# EAGLE library part -PIC16F684 (library res)
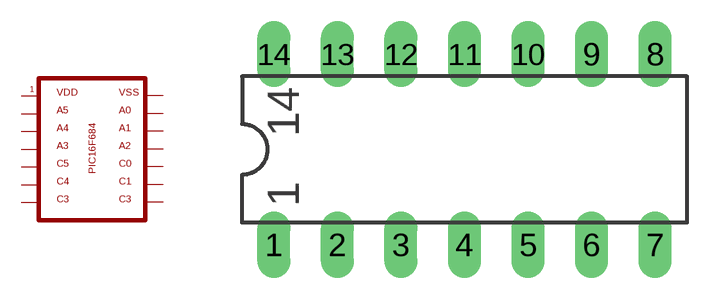
[diagram p14: symbol with the pads of DIL14; footprint DIL14]

Designator prefix -

## -PIC16F684  [DIL14]
1  VDD  pwr
2  A5
3  A4
4  A3  in
5  C5
6  C4
7  C3
8  C2
9  C1
10  C0
11  A2
12  A1
13  A0
14  VSS  pwr

## Footprint DIL14 (pad centres in mm)
Dual In Line Package
drill 0.813 long: 1 -7.62,-3.81; 2 -5.08,-3.81; 3 -2.54,-3.81; 4 0,-3.81; 5 2.54,-3.81; 6 5.08,-3.81; 7 7.62,-3.81; 8 7.62,3.81; 9 5.08,3.81; 10 2.54,3.81; 11 0,3.81; 12 -2.54,3.81; 13 -5.08,3.81; 14 -7.62,3.81